# Altium footprint library usb.PcbLib: 2 footprints
Each footprint in its own frame and in the unit in brackets; x right, y up, seen from the top. Pads: shape width x height; smd on the part's side, far side on the other; paste and mask are expansions set on the pad; w line width, h text height; cw(c..) or ccw(c..) is an arc to the next point about the centre after c.
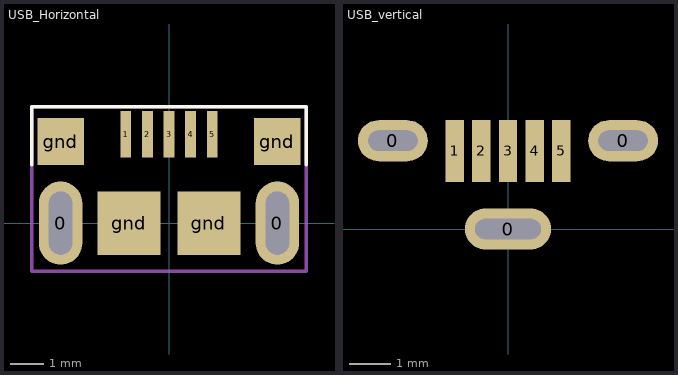
[diagram p0: the footprints below, top view; thin cyan lines are the x and y axes]

## USB_Horizontal [mm]
height 3
pads (11):
  rrect100% 1.3x2.5 hole 0.7 slot 1.9 at 90 deg: 0(-3.255,0) 0(3.255,0)
  rect 0.325x1.4 smd: 1(-1.3,2.675) 2(-0.65,2.675) 3(0,2.675) 4(0.65,2.675) 5(1.3,2.675)
  rect 1.4x1.4 smd: gnd(-3.255,2.45) gnd(3.255,2.45)
  rect 1.9x1.9 smd: gnd(-1.2,0) gnd(1.2,0)
Top Overlay:
  lines w0.1: -4.125,1.75 -4.125,3.5 4.125,3.5 4.125,1.75
Mechanical 15:
  lines w0.1: -4.125,-1.45 -4.125,3.5 4.125,3.5 4.125,-1.45 3,-1.45 -3,-1.45 -4.125,-1.45
3D body: height 2.75, standoff -0.82, extent -4,-2.8 4,2.8

## USB_vertical [mm]
height 6.7
pads (8):
  rrect100% 1.7x1 hole 0.5 slot 1.2 at 0 deg: 0(-2.8,2.15) 0(2.8,2.15)
  rrect100% 2.1x1 hole 0.5 slot 1.6 at 0 deg: 0(0,0)
  rect 0.45x1.5 smd: 1(-1.3,1.9) 2(-0.65,1.9) 3(0,1.9) 4(0.65,1.9) 5(1.3,1.9)
3D body: height 7.53, standoff -2.27, extent -3.988,-1.125 4.038,3.325